# EAGLE library part MIC29302 (library dooba)
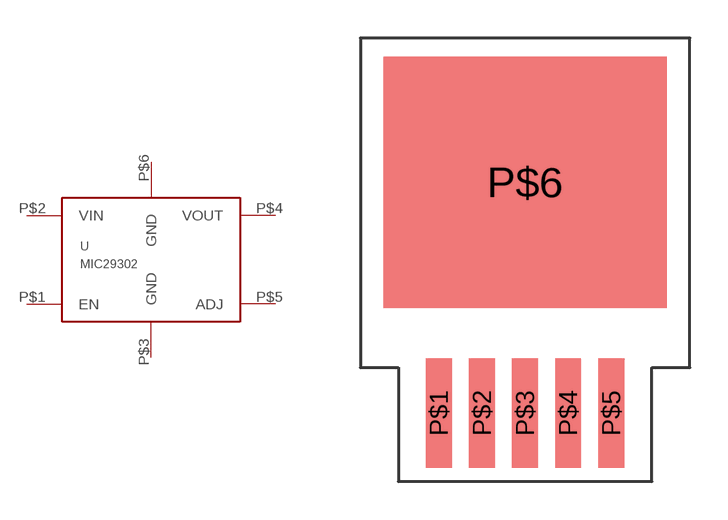
[diagram p44: symbol with the pads of TO-263; footprint TO-263]

Designator prefix U

## MIC29302TO-263-5  [TO-263]
P$1  EN
P$2  VIN
P$3  GND
P$4  VOUT
P$5  ADJ
P$6  GND

## Footprint TO-263 (pad centres in mm)
smd 1.02 x 4.32: P$1 -3.4,-6.8; P$2 -1.7,-6.8; P$3 0,-6.8; P$4 1.7,-6.8; P$5 3.4,-6.8
smd 11.18 x 9.91: P$6 0,2.305